# Altium schematic symbol library IC-XCVR.SchLib: 9 symbols
Pins are listed as number, name and electrical type; pins without a type are passive.

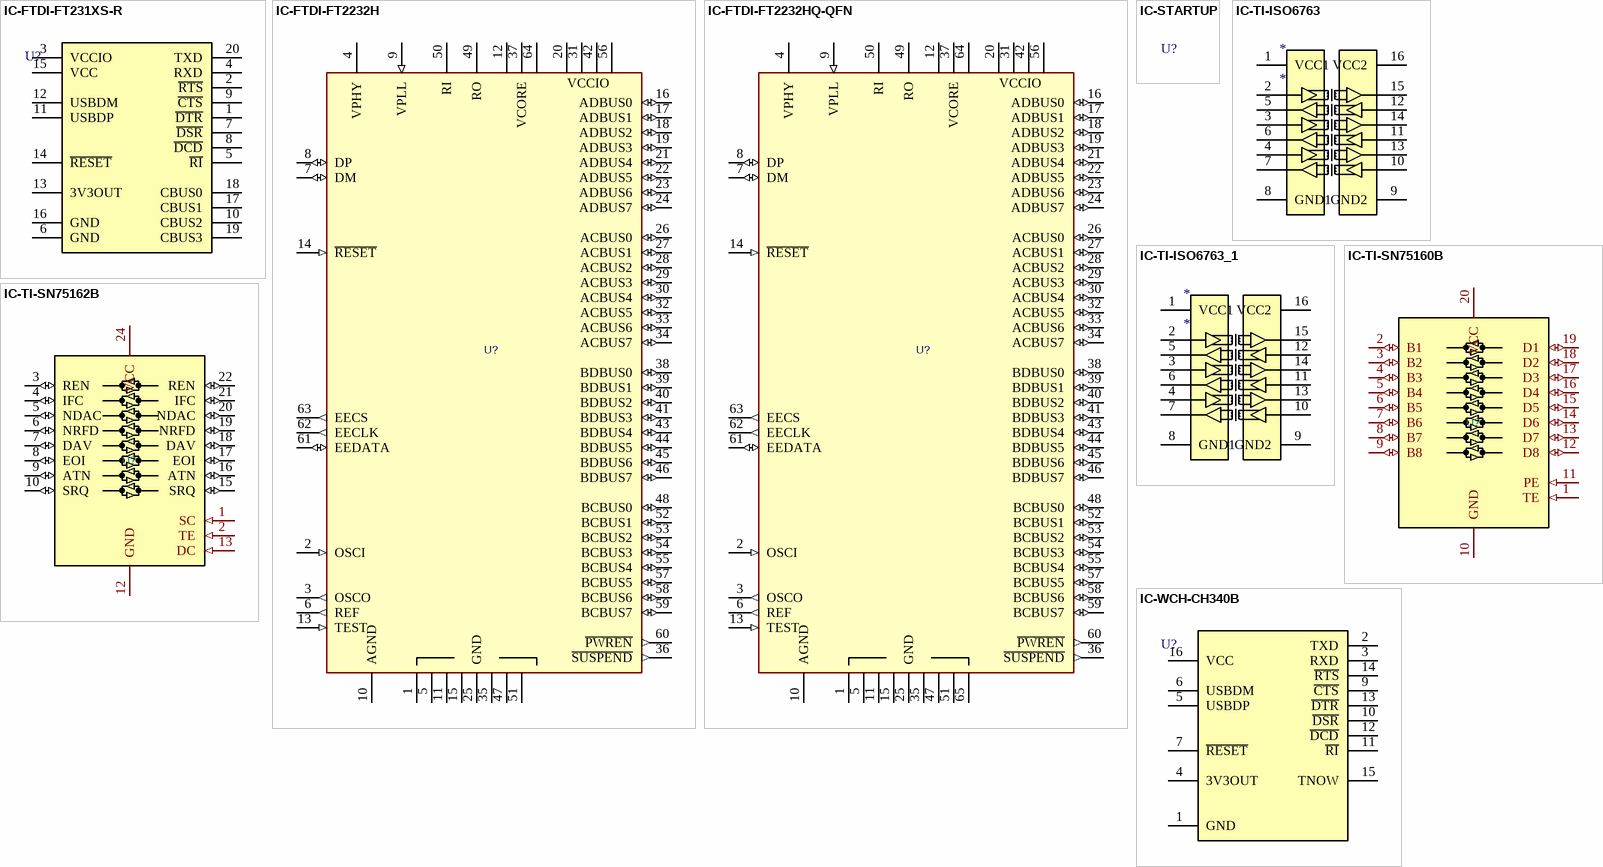
[diagram p0: symbols IC-FTDI-FT231XS-R to IC-WCH-CH340B]

## IC-FTDI-FT231XS-R
designator U?  (value not drawn)
IC,XCVR,USB UART,FTDI,FT231XS-R,TSSOP20; LCSC: C132160; Manufacturer 1: FTDI; MOUSER: 895-FT231XS-R; Manufacturer Part Number 1: FT231XS-R
footprint SO65P640X110-20N (TSSOP20 - PITCH 0.65MM, SPAN 6.4MM)
pins: 1 ~{DTR} (power), 2 ~{RTS} (power), 3 VCCIO (power), 4 RXD (power), 5 ~{RI} (power), 6 GND (power), 7 ~{DSR} (power), 8 ~{DCD} (power), 9 ~{CTS} (power), 10 CBUS2 (power), 11 USBDP (power), 12 USBDM (power), 13 3V3OUT (power), 14 ~{RESET} (power), 15 VCC (power), 16 GND (power), 17 CBUS1 (power), 18 CBUS0 (power), 19 CBUS3 (power), 20 TXD (power)

## IC-FTDI-FT2232H
designator U?, comment FT2232H  (value not drawn)
IC,XCVR,USB UART,DUAL,FTDI,FT2232H,QFP64; Manufacturer Part Number 1: FT2232HL-REEL; LCSC: C27882; Manufacturer 1: FTDI
footprint QFP50P1000X1000X100-64N
pins: 1 GND (power), 2 OSCI (in), 3 OSCO (out), 4 VPHY (power), 5 GND (power), 6 REF (out), 7 DM (io), 8 DP (io), 9 VPLL (in), 10 AGND (power), 11 GND (power), 12 VCORE (power), 13 TEST (in), 14 ~{RESET} (in), 15 GND (power), 16 ADBUS0 (io), 17 ADBUS1 (io), 18 ADBUS2 (io), 19 ADBUS3 (io), 20 VCCIO (power), 21 ADBUS4 (io), 22 ADBUS5 (io), 23 ADBUS6 (io), 24 ADBUS7 (io), 25 GND (power), 26 ACBUS0 (io), 27 ACBUS1 (io), 28 ACBUS2 (io), 29 ACBUS3 (io), 30 ACBUS4 (io), 31 VCCIO (power), 32 ACBUS5 (io), 33 ACBUS6 (io), 34 ACBUS7 (io), 35 GND (power), 36 ~{SUSPEND} (out), 37 VCORE (power), 38 BDBUS0 (io), 39 BDBUS1 (io), 40 BDBUS2 (io), 41 BDBUS3 (io), 42 VCCIO (power), 43 BDBUS4 (io), 44 BDBUS5 (io), 45 BDBUS6 (io), 46 BDBUS7 (io), 47 GND (power), 48 BCBUS0 (io), 49 RO (power), 50 RI (power), 51 GND (power), 52 BCBUS1 (io), 53 BCBUS2 (io), 54 BCBUS3 (io), 55 BCBUS4 (io), 56 VCCIO (power), 57 BCBUS5 (io), 58 BCBUS6 (io), 59 BCBUS7 (io), 60 ~{PWREN} (out), 61 EEDATA (io), 62 EECLK (out), 63 EECS (out), 64 VCORE (power)

## IC-FTDI-FT2232HQ-QFN
designator U?, comment FT2232HQ  (value not drawn)
IC,XCVR.USB USART.DUAL,FTDI,FT2232H,QFN; LCSC: C193662; Footprint: Package_DFN_QFN:QFN-64-1EP_9x9mm_P0.5mm_EP4.35x4.35mm_ThermalVias
footprint QFN-64-1EP_9x9mm_P0.5mm_EP4.35x4.35mm_ThermalVias
pins: 1 GND (power), 2 OSCI (in), 3 OSCO (out), 4 VPHY (power), 5 GND (power), 6 REF (out), 7 DM (io), 8 DP (io), 9 VPLL (in), 10 AGND (power), 11 GND (power), 12 VCORE (power), 13 TEST (in), 14 ~{RESET} (in), 15 GND (power), 16 ADBUS0 (io), 17 ADBUS1 (io), 18 ADBUS2 (io), 19 ADBUS3 (io), 20 VCCIO (power), 21 ADBUS4 (io), 22 ADBUS5 (io), 23 ADBUS6 (io), 24 ADBUS7 (io), 25 GND (power), 26 ACBUS0 (io), 27 ACBUS1 (io), 28 ACBUS2 (io), 29 ACBUS3 (io), 30 ACBUS4 (io), 31 VCCIO (power), 32 ACBUS5 (io), 33 ACBUS6 (io), 34 ACBUS7 (io), 35 GND (power), 36 ~{SUSPEND} (out), 37 VCORE (power), 38 BDBUS0 (io), 39 BDBUS1 (io), 40 BDBUS2 (io), 41 BDBUS3 (io), 42 VCCIO (power), 43 BDBUS4 (io), 44 BDBUS5 (io), 45 BDBUS6 (io), 46 BDBUS7 (io), 47 GND (power), 48 BCBUS0 (io), 49 RO (power), 50 RI (power), 51 GND (power), 52 BCBUS1 (io), 53 BCBUS2 (io), 54 BCBUS3 (io), 55 BCBUS4 (io), 56 VCCIO (power), 57 BCBUS5 (io), 58 BCBUS6 (io), 59 BCBUS7 (io), 60 ~{PWREN} (out), 61 EEDATA (io), 62 EECLK (out), 63 EECS (out), 64 VCORE (power), 65 GND (power)

## IC-STARTUP
designator U?, comment IC STARTUP OBJECT  (value not drawn)
LCSC: *; DIGIKEY: *; MOUSER: *; Manufacturer 1: *; Manufacturer Part Number 1: *; LOCATION: *

## IC-TI-ISO6763
designator *
pins: 1 VCC1, 2 IN1, 3 IN2, 4 IN3, 5 OUT4, 6 OUT5, 7 OUT6, 8 GND1, 9 GND2, 10 IN6, 11 IN5, 12 IN4, 13 OUT3, 14 OUT2, 15 OUT1, 16 VCC2

## IC-TI-ISO6763_1
designator *
pins: 1 VCC1, 2 IN1, 3 IN2, 4 IN3, 5 OUT4, 6 OUT5, 7 OUT6, 8 GND1, 9 GND2, 10 IN6, 11 IN5, 12 IN4, 13 OUT3, 14 OUT2, 15 OUT1, 16 VCC2

## IC-TI-SN75160B
designator U?, comment SN75160B  (value not drawn)
IC,XCVR,GPIB,DATA.TI,SN75160DW,SO20W; Manufacturer 1: TI; Manufacturer Part Number 1: SN75160BDWR; MOUSER: 595-SN75160BDW; LCSC: C882412
footprint SO127P1030-20N (SOIC, 20-LEADS, BODY 12.80X7.50MM, PITCH 1.27MM, IPC MEDIUM DENSITY)
pins: 1 TE (in), 2 B1 (io), 3 B2 (io), 4 B3 (io), 5 B4 (io), 6 B5 (io), 7 B6 (io), 8 B7 (io), 9 B8 (io), 10 GND, 11 PE (in), 12 D8 (io), 13 D7 (io), 14 D6 (io), 15 D5 (io), 16 D4 (io), 17 D3 (io), 18 D2 (io), 19 D1 (io), 20 VCC

## IC-TI-SN75162B
designator U?, comment SN75162B  (value not drawn)
IC,XCVR,GPIB,CONTROL,TI,SN75162DW,SO24W; Manufacturer Part Number 1: SN75162BDW; LCSC: C2863933; DIGIKEY: *; MOUSER: 595-SN75162BDWR; Manufacturer 1: TI
footprint SO127P1030-24N (SOP, 24-LEADS, BODY 15.40X7.50MM, PITCH 1.27MM, IPC MEDIUM DENSITY)
pins: 1 SC (in), 2 TE (in), 3 REN (io), 4 IFC (io), 5 NDAC (io), 6 NRFD (io), 7 DAV (io), 8 EOI (io), 9 ATN (io), 10 SRQ (io), 12 GND, 13 DC (in), 15 SRQ (io), 16 ATN (io), 17 EOI (io), 18 DAV (io), 19 NRFD (io), 20 NDAC (io), 21 IFC (io), 22 REN (io), 24 VCC

## IC-WCH-CH340B
designator U?, comment CP2102  (value not drawn)
IC,XCVR,USB UART WITH XTAL AND EEPROM,WCH,CH340G-SO16; Manufacturer Part Number 1: FT231XS-R; LCSC: CH340B; Manufacturer 1: WCH; MOUSER: CH340B
footprint SO127P600-16N (SO16)
pins: 1 GND (power), 2 TXD (power), 3 RXD (power), 4 3V3OUT (power), 5 USBDP (power), 6 USBDM (power), 7 ~{RESET} (power), 9 ~{CTS} (power), 10 ~{DSR} (power), 11 ~{RI} (power), 12 ~{DCD} (power), 13 ~{DTR} (power), 14 ~{RTS} (power), 15 TNOW (power), 16 VCC (power)